# EAGLE library part LM3916 (library Lighting)
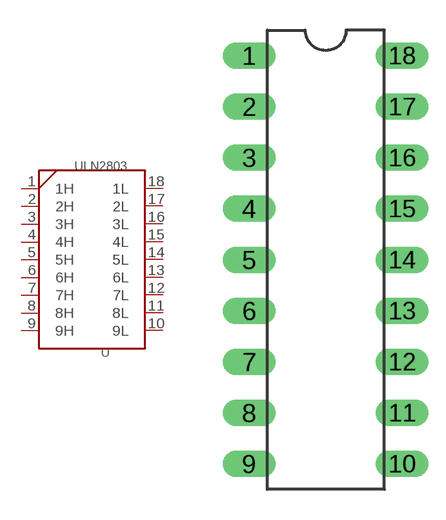
[diagram p0: symbol with the pads of DIL18; footprint DIL18]

Designator prefix -

## LM3916  [DIL18]
1  1H
2  2H
3  3H
4  4H
5  5H
6  6H
7  7H
8  8H
9  9H
10  9L
11  8L
12  7L
13  6L
14  5L
15  4L
16  3L
17  2L
18  1L

## Footprint DIL18 (pad centres in mm)
drill 0.813 long: 1 -3.81,10.16; 2 -3.81,7.62; 3 -3.81,5.08; 4 -3.81,2.54; 5 -3.81,0; 6 -3.81,-2.54; 7 -3.81,-5.08; 8 -3.81,-7.62; 9 -3.81,-10.16; 10 3.81,-10.16; 11 3.81,-7.62; 12 3.81,-5.08; 13 3.81,-2.54; 14 3.81,0; 15 3.81,2.54; 16 3.81,5.08; 17 3.81,7.62; 18 3.81,10.16